# Altium schematic symbol library Microver.SchLib: 988 symbols (part 7 of 17)
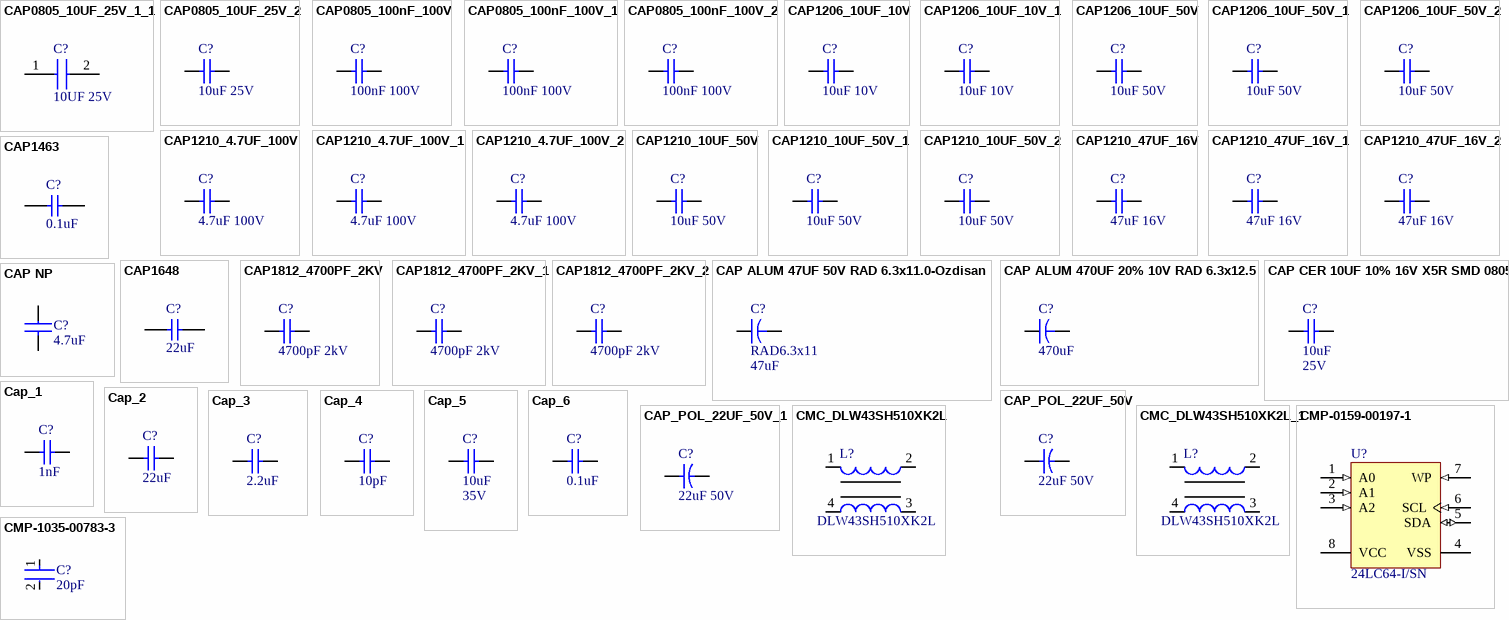
[diagram p35: symbols CAP0805_10UF_25V_1_1 to CMP-1035-00783-3]

## CMP-0159-00197-1
designator U?, comment 24LC64-I/SN
64Kbit, 400kHz, 2.5V, I2C Serial EEPROM, 8-Pin SOIC 150mil, Industrial Temperature; PackageDescription: 8-Lead Plastic Small Outline (SN) - Narrow, 3.90mm Body [SOIC]; PackageReference: SOIC-SN8; Code_JEDEC: MS-012; PackageVersion: revBB, Aug-2009; Code_IPC: SOIC127P600-8; DatasheetVersion: revQ, Jun-2009
footprint SOIC-SN8_L (SOIC, 8-Leads, Body 4.9x3.8mm, Pitch 1.27mm, IPC High Density)
footprint SOIC-SN8_N (SOIC, 8-Leads, Body 4.9x3.8mm, Pitch 1.27mm, IPC Medium Density)
footprint SOIC-SN8_M (SOIC, 8-Leads, Body 4.9x3.8mm, Pitch 1.27mm, IPC Low Density)
pins: 1 A0 (in), 2 A1 (in), 3 A2 (in), 4 VSS (power), 5 SDA (io), 6 SCL (in), 7 WP (in), 8 VCC (power)

## CMP-1035-00783-3
designator C?, comment 20pF
CAP CER 20PF 50V 5% NP0 0603; Manufacturer Part Number: C0603C200J5GACTU; Manufacturer: KEMET; Temperature Coefficient: 30ppm/°C; Temperature Characteristic: C0G; Automotive Grade: Grade 1; Tolerance: 0.05; Material: Ceramic; Category: Cap; Temperature Range Low: -55°C; RoHS: TRUE; ComponentLink2URL: https://api.kemet.com/component-edge/download/datasheet/C0603C100J5GACAUTO.pdf; Package: C0603C-CF; Height: 0.87mm; Capacitance: 20 pF; Voltage Rating: 50 V; Octopart: https://octopart.com/c0603c200j5gactu-kemet-9138585; Device Class L1: Passive Components; Automotive: Yes; Digikey Description: CAP CER 20PF 50V 5% NP0 0603; Temperature Range High: +125°C; Device Class L3: Ceramic Capacitors; Mouser Description: Multilayer Ceramic Capacitors MLCC - SMD/SMT 50volts 20pF C0G 5%; ComponentLink2Description: Datasheet; Device Class L2: Capacitors; Lead Free: Yes; Temperature: -55°C to +125°C; Value: 20 pF
footprint FP-C0603C-CF-MFG
footprint FP-C0603C-CF-IPC_C
footprint FP-C0603C-CF-IPC_B
footprint FP-C0603C-CF-IPC_A
pins: 1, 2

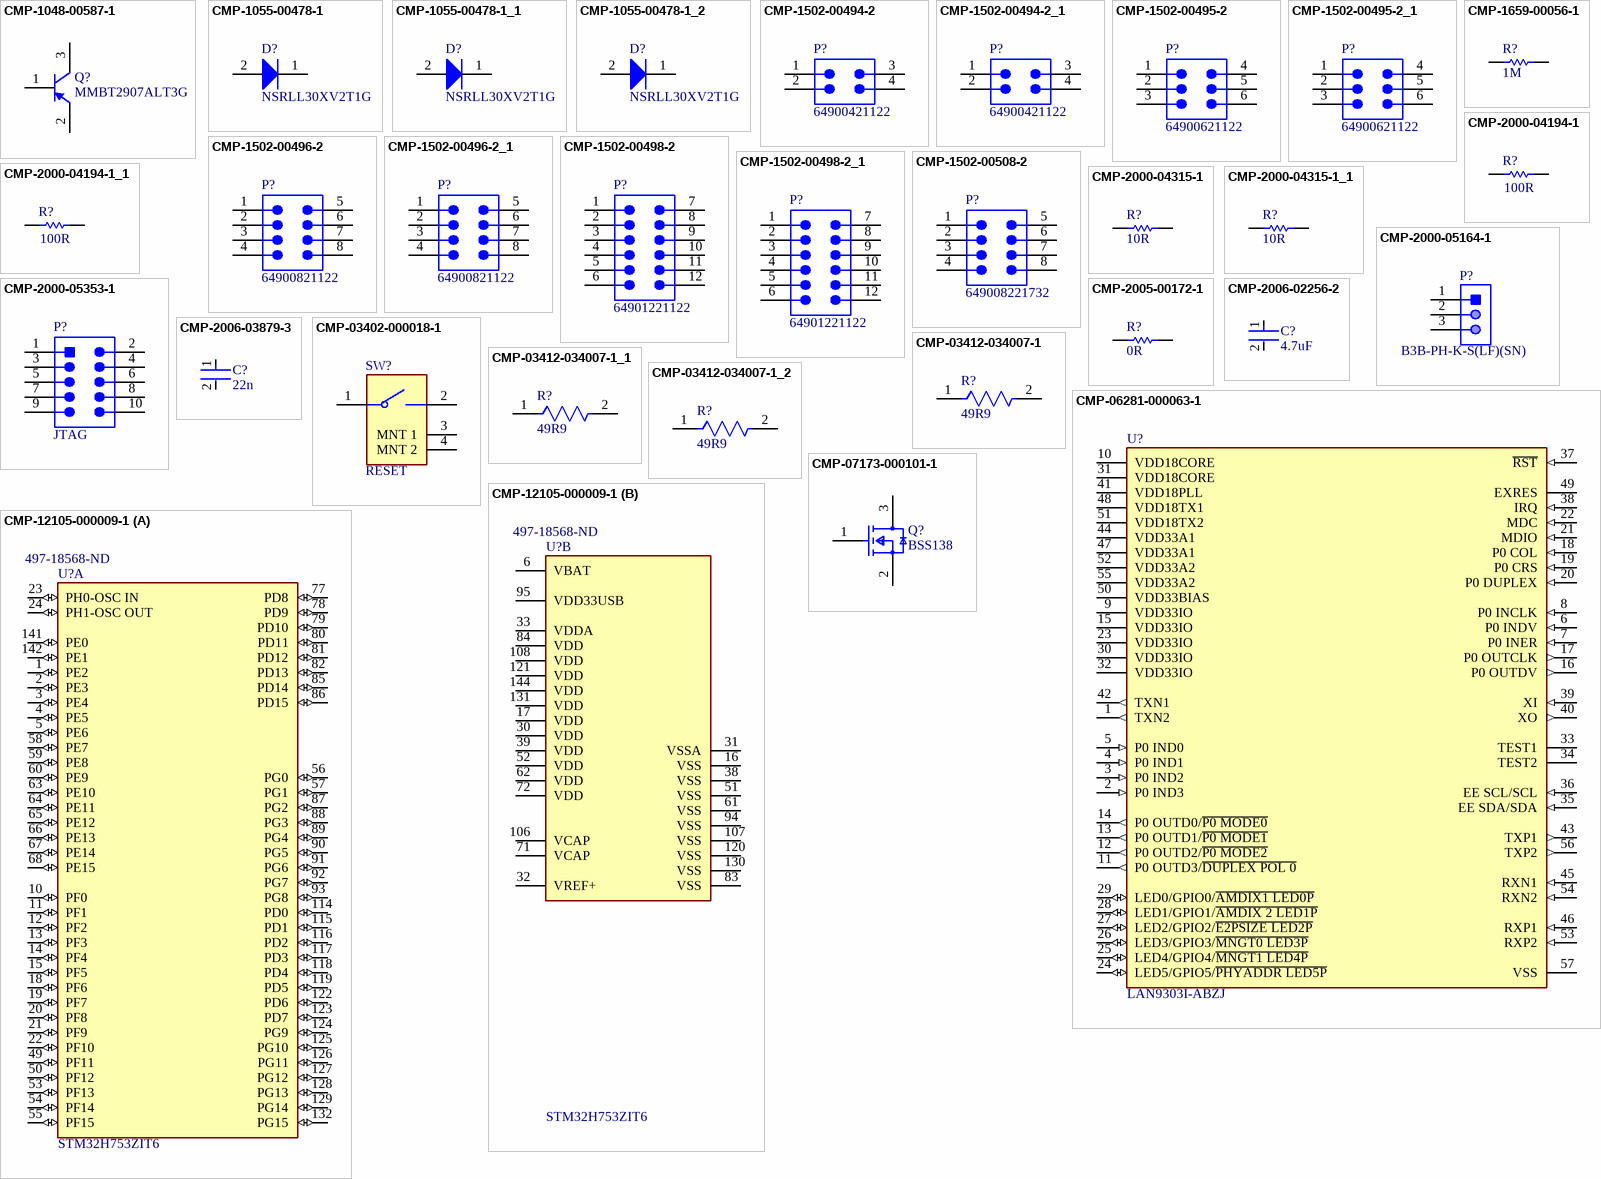
[diagram p9: symbols CMP-1048-00587-1 to CMP-12105-000009-1]

## CMP-1048-00587-1
designator Q?, comment MMBT2907ALT3G
General Purpose Transistor, PNP Silicon, 3-Pin SOT-23, Pb-Free, Tape and Reel; Manufacturer: ON Semiconductor; Collector Emitter Voltage (VCEO): 60V; Max Power Dissipation: 300mW; Max Collector Current: 600mA; Emitter Base Voltage (VEBO): 5V; Element Configuration: Single; hFE Min: 75; Number of Elements: 1; Collector Emitter Saturation Voltage: -1.6V; Gain Bandwidth Product: 200MHz; Collector-emitter Voltage-Max: 1.6V; Voltage Rating (DC): -60V; Current Rating: -600mA; Max Frequency: 100MHz; ComponentLink1Description: Manufacturer URL; ComponentLink2Description: Datasheet; ComponentLink2URL: http://www.onsemi.cn/pub_link/Collateral/MMBT2907ALT1-D.PDF; ComponentLink1URL: http://www.onsemi.com/; ComponentLink3Description: Package Specification; ComponentLink3URL: http://www.onsemi.cn/pub_link/Collateral/318-08.PDF; Supplier 1: Digi-Key; Supplier Part Number 1: MMBT2907ALT3GOSCT-ND; Manufacturer Part Number: MMBT2907ALT3G; RoHS: Yes; Category: BJTs; Stock 1: 3486; Pricing 1: 1=0,18000, 10=0,16100, 25=0,15360, 100=0,08790, 500=0,05410, 1000=0,03689, 2500=0,03136, 5000=0,02828 (USD); Case/Package: SOT-23-3; Number of Pins: 3; Contact Plating: Tin,Matte; Min Operating Temperature: -55°C; Max Operating Temperature: 150°C; Packaging: Tape and Reel; Polarity: PNP; Package Quantity: 10000; Collector Base Voltage (VCBO): 60V; Collector Emitter Breakdown Voltage: 60V; Power Dissipation: 300mW; Frequency: 200MHz; Transition Frequency: 200MHz; Max Breakdown Voltage: 60V; Series: -; Length: 3.04mm; Width: 1.4mm; Height: 1.01mm; Radiation Hardening: No; RoHS Compliant: Yes; Lead Free: Lead Free; REACH SVHC: No SVHC; ComponentLink4URL: https://datasheet.ciiva.com/980/mmbt2907alt1-d-980631.pdf?src-supplier=Digi-Key; ComponentLink4Description: https://datasheet.ciiva.com/980/mmbt2907alt1-d-980631.pdf?src-supplier=Digi-Key; ComponentLink5URL: https://datasheet.ciiva.com/16390/mmbt2907alt1-d-16390999.pdf?src-supplier=Future+Electronics; ComponentLink5Description: https://datasheet.ciiva.com/16390/mmbt2907alt1-d-16390999.pdf?src-supplier=Future+Electronics; ComponentLink6URL: https://datasheet.ciiva.com/980/mmbt2907alt1-d-980632.pdf?src-supplier=Digi-Key; ComponentLink6Description: https://datasheet.ciiva.com/980/mmbt2907alt1-d-980632.pdf?src-supplier=Digi-Key; ComponentLink7URL: https://datasheet.ciiva.com/11198/mmbt2907alt1-d-11198984.pdf?src-supplier=Avnet; ComponentLink7Description: https://datasheet.ciiva.com/11198/mmbt2907alt1-d-11198984.pdf?src-supplier=Avnet; ComponentLink8URL: https://datasheet.ciiva.com/980/mmbt2907alt1-d-980633.pdf?src-supplier=Digi-Key; ComponentLink8Description: https://datasheet.ciiva.com/980/mmbt2907alt1-d-980633.pdf?src-supplier=Digi-Key; ComponentLink9URL: https://datasheet.ciiva.com/7972/mmbt2907alt1-d-7972377.pdf?src-supplier=Element14; ComponentLink9Description: https://datasheet.ciiva.com/7972/mmbt2907alt1-d-7972377.pdf?src-supplier=Element14; ComponentLink10URL: https://datasheet.ciiva.com/11198/mmbt2907alt1-d-11198986.pdf?src-supplier=Avnet; ComponentLink10Description: https://datasheet.ciiva.com/11198/mmbt2907alt1-d-11198986.pdf?src-supplier=Avnet
footprint ONSC-SOT-23-3-318-08_V (SOT23, 3-Leads, Body 2.92x1.3mm, Pitch 0.95mm)
pins: 1 B, 2 E, 3 C

## CMP-1055-00478-1
designator D?, comment NSRLL30XV2T1G
Schottky Barrier Diode, 2-Pin SOD-523, Pb-Free, Tape and Reel; Manufacturer: On Semiconductor; Configuration: Single; PackageReference: SOD-523-2-502-01; PackageVersion: Rev. E, 09/2010; ComponentLink1Description: Manufacturer URL; ComponentLink2URL: http://www.onsemi.cn/pub_link/Collateral/NSRLL30XV2-D.PDF; PartNumber: NSRLL30XV2T1G; PackageDescription: 2-Pin SOD, Body 1.2 x 0.8 mm; RoHS: TRUE; Mounting Technology: Surface Mount; ComponentLink3URL: http://www.onsemi.com/pub_link/Collateral/502-01.PDF; ComponentLink3Description: Package Specification; Packing: Tape and Reel; ComponentLink2Description: Datasheet; DatasheetVersion: Rev. 1; ComponentLink1URL: http://www.onsemi.com/
footprint ONSC-SOD-523-2-502-01_V (SOD, 2-Leads, Body 1.2x0.8mm)
pins: 1 K, 2 A

## CMP-1055-00478-1_1
designator D?, comment NSRLL30XV2T1G
Schottky Barrier Diode, 2-Pin SOD-523, Pb-Free, Tape and Reel; Manufacturer: On Semiconductor; Configuration: Single; PackageReference: SOD-523-2-502-01; PackageVersion: Rev. E, 09/2010; ComponentLink1Description: Manufacturer URL; ComponentLink2URL: http://www.onsemi.cn/pub_link/Collateral/NSRLL30XV2-D.PDF; PartNumber: NSRLL30XV2T1G; PackageDescription: 2-Pin SOD, Body 1.2 x 0.8 mm; RoHS: TRUE; Mounting Technology: Surface Mount; ComponentLink3URL: http://www.onsemi.com/pub_link/Collateral/502-01.PDF; ComponentLink3Description: Package Specification; Packing: Tape and Reel; ComponentLink2Description: Datasheet; DatasheetVersion: Rev. 1; ComponentLink1URL: http://www.onsemi.com/
footprint ONSC-SOD-523-2-502-01_V (SOD, 2-Leads, Body 1.2x0.8mm)
pins: 1 K, 2 A

## CMP-1055-00478-1_2
designator D?, comment NSRLL30XV2T1G
Schottky Barrier Diode, 2-Pin SOD-523, Pb-Free, Tape and Reel; Manufacturer: On Semiconductor; Configuration: Single; PackageReference: SOD-523-2-502-01; PackageVersion: Rev. E, 09/2010; ComponentLink1Description: Manufacturer URL; ComponentLink2URL: http://www.onsemi.cn/pub_link/Collateral/NSRLL30XV2-D.PDF; PartNumber: NSRLL30XV2T1G; PackageDescription: 2-Pin SOD, Body 1.2 x 0.8 mm; RoHS: TRUE; Mounting Technology: Surface Mount; ComponentLink3URL: http://www.onsemi.com/pub_link/Collateral/502-01.PDF; ComponentLink3Description: Package Specification; Packing: Tape and Reel; ComponentLink2Description: Datasheet; DatasheetVersion: Rev. 1; ComponentLink1URL: http://www.onsemi.com/
footprint ONSC-SOD-523-2-502-01_V (SOD, 2-Leads, Body 1.2x0.8mm)
pins: 1 K, 2 A

## CMP-1502-00494-2
designator P?, comment 64900421122
NexarPartId: 8917579; Lead Length: 3.5mm; Pitch: 4.2mm; Number of Contacts: 4; Contact Resistance: 10mΩ; Gender: Male; Connector Type: Male Pin, Socket; Voltage Rating: 600V; Insulation Resistance: 1GΩ; Row Spacing: 5.5118mm; Current Rating: 8A; RoHS: Compliant; Number of Rows: 2; Housing Material: Nylon; Min Operating Temperature: -40°C; Flammability Rating: UL94 V-0; Contact Plating: Tin; REACH SVHC: Unknown; Orientation: Vertical; Contact Material: Copper; Mount: Through Hole; Max Operating Temperature: 105°C; Number of Pins: 4; Width: 9.7mm; Termination: Through Hole; Lead Pitch: 4.2mm; Number of Positions: 4; Contact Gender: Male; Color: White; Height: 12.8mm; Fastening Type: Ramp; Operating Supply Voltage: 600V; Length: 9.6mm
footprint 64900421122 (Connector, 4.20mm Male Dual Row Vertical Header, 4 Pins, WR-MPC4)
pins: 1, 2, 3, 4

## CMP-1502-00494-2_1
designator P?, comment 64900421122
NexarPartId: 8917579; Lead Length: 3.5mm; Pitch: 4.2mm; Number of Contacts: 4; Contact Resistance: 10mΩ; Gender: Male; Connector Type: Male Pin, Socket; Voltage Rating: 600V; Insulation Resistance: 1GΩ; Row Spacing: 5.5118mm; Current Rating: 8A; RoHS: Compliant; Number of Rows: 2; Housing Material: Nylon; Min Operating Temperature: -40°C; Flammability Rating: UL94 V-0; Contact Plating: Tin; REACH SVHC: Unknown; Orientation: Vertical; Contact Material: Copper; Mount: Through Hole; Max Operating Temperature: 105°C; Number of Pins: 4; Width: 9.7mm; Termination: Through Hole; Lead Pitch: 4.2mm; Number of Positions: 4; Contact Gender: Male; Color: White; Height: 12.8mm; Fastening Type: Ramp; Operating Supply Voltage: 600V; Length: 9.6mm
footprint 64900421122 (Connector, 4.20mm Male Dual Row Vertical Header, 4 Pins, WR-MPC4)
pins: 1, 2, 3, 4

## CMP-1502-00495-2
designator P?, comment 64900621122
NexarPartId: 8917580; Voltage Rating: 600V; Number of Positions: 6; Gender: Male; Row Spacing: 5.5118mm; Contact Resistance: 10mΩ; Connector Type: Male Pin, Socket; Pitch: 4.2mm; Insulation Resistance: 1GΩ; Current Rating: 8A; Lead Length: 3.5mm; Housing Material: Nylon; Length: 13.8mm; Fastening Type: Ramp; Orientation: Vertical; RoHS: Compliant; Mount: Through Hole; Number of Contacts: 6; Max Operating Temperature: 105°C; Termination: Through Hole; REACH SVHC: Unknown; Color: White; Contact Gender: Male; Lead Pitch: 4.2mm; Flammability Rating: UL94 V-0; Operating Supply Voltage: 600V; Width: 13.9mm; Min Operating Temperature: -40°C; Contact Material: Copper; Number of Rows: 2; Number of Pins: 6; Contact Plating: Tin; Height: 12.8mm
footprint 64900621122 (WR-MPC4; 4.2mm Pitch 6 Way 2 Row Shrouded Straight PCB Header, Through Hole)
pins: 1, 2, 3, 4, 5, 6

## CMP-1502-00495-2_1
designator P?, comment 64900621122
NexarPartId: 8917580; Voltage Rating: 600V; Number of Positions: 6; Gender: Male; Row Spacing: 5.5118mm; Contact Resistance: 10mΩ; Connector Type: Male Pin, Socket; Pitch: 4.2mm; Insulation Resistance: 1GΩ; Current Rating: 8A; Lead Length: 3.5mm; Housing Material: Nylon; Length: 13.8mm; Fastening Type: Ramp; Orientation: Vertical; RoHS: Compliant; Mount: Through Hole; Number of Contacts: 6; Max Operating Temperature: 105°C; Termination: Through Hole; REACH SVHC: Unknown; Color: White; Contact Gender: Male; Lead Pitch: 4.2mm; Flammability Rating: UL94 V-0; Operating Supply Voltage: 600V; Width: 13.9mm; Min Operating Temperature: -40°C; Contact Material: Copper; Number of Rows: 2; Number of Pins: 6; Contact Plating: Tin; Height: 12.8mm
footprint 64900621122 (WR-MPC4; 4.2mm Pitch 6 Way 2 Row Shrouded Straight PCB Header, Through Hole)
pins: 1, 2, 3, 4, 5, 6

## CMP-1502-00496-2
designator P?, comment 64900821122
NexarPartId: 8917581; Connector Type: Male Pin, Socket; Operating Supply Voltage: 600V; Pitch: 4.2mm; Gender: Male; Number of Positions: 8; Contact Resistance: 10mΩ; Insulation Resistance: 1GΩ; Row Spacing: 5.5118mm; Current Rating: 7A; Insulation: Insulated; Flammability Rating: UL94 V-0; Max Operating Temperature: 105°C; Orientation: Vertical; Min Operating Temperature: -40°C; Contact Gender: Male; Number of Pins: 8; Lead Pitch: 4.2mm; Width: 18.1mm; Height: 9.6mm; REACH SVHC: Unknown; Number of Rows: 2; Number of Contacts: 8; Fastening Type: Ramp; Termination: Through Hole; Housing Material: Nylon; Contact Plating: Tin; Length: 18mm; Contact Material: Copper; Voltage Rating: 600V; RoHS: Compliant; Mount: Through Hole; Color: White
footprint 64900821122 (WR-MPC4; 4.2mm Pitch 8 Way 2 Row Shrouded Straight PCB Header, Through Hole)
pins: 1, 2, 3, 4, 5, 6, 7, 8

## CMP-1502-00496-2_1
designator P?, comment 64900821122
NexarPartId: 8917581; Connector Type: Male Pin, Socket; Operating Supply Voltage: 600V; Pitch: 4.2mm; Gender: Male; Number of Positions: 8; Contact Resistance: 10mΩ; Insulation Resistance: 1GΩ; Row Spacing: 5.5118mm; Current Rating: 7A; Insulation: Insulated; Flammability Rating: UL94 V-0; Max Operating Temperature: 105°C; Orientation: Vertical; Min Operating Temperature: -40°C; Contact Gender: Male; Number of Pins: 8; Lead Pitch: 4.2mm; Width: 18.1mm; Height: 9.6mm; REACH SVHC: Unknown; Number of Rows: 2; Number of Contacts: 8; Fastening Type: Ramp; Termination: Through Hole; Housing Material: Nylon; Contact Plating: Tin; Length: 18mm; Contact Material: Copper; Voltage Rating: 600V; RoHS: Compliant; Mount: Through Hole; Color: White
footprint 64900821122 (WR-MPC4; 4.2mm Pitch 8 Way 2 Row Shrouded Straight PCB Header, Through Hole)
pins: 1, 2, 3, 4, 5, 6, 7, 8

## CMP-1502-00498-2
designator P?, comment 64901221122
NexarPartId: 23024617; Connector Type: Male Pin, Socket; Row Spacing: 4.191mm; Contact Resistance: 10mΩ; Number of Positions: 12; Insulation Resistance: 1GΩ; Current Rating: 6A; Pitch: 4.2mm; Gender: Male; Operating Supply Voltage: 600V; Min Operating Temperature: -40°C; Height: 12.8mm; Termination: Solder; Contact Material: Copper; Orientation: Vertical; Color: White; Length: 26.4mm; Number of Rows: 2; Mount: Through Hole; Width: 26.5mm; Contact Plating: Tin; RoHS: Compliant; Fastening Type: Ramp; Max Operating Temperature: 105°C; Lead Pitch: 4.2mm; Number of Contacts: 12; REACH SVHC: Unknown; Number of Pins: 12
footprint 64901221122 (Connector, 4.20mm Male Dual Row Vertical Header, 12 Pins, WR-MPC4)
pins: 1, 2, 3, 4, 5, 6, 7, 8, 9, 10, 11, 12

## CMP-1502-00498-2_1
designator P?, comment 64901221122
NexarPartId: 23024617; Connector Type: Male Pin, Socket; Row Spacing: 4.191mm; Contact Resistance: 10mΩ; Number of Positions: 12; Insulation Resistance: 1GΩ; Current Rating: 6A; Pitch: 4.2mm; Gender: Male; Operating Supply Voltage: 600V; Min Operating Temperature: -40°C; Height: 12.8mm; Termination: Solder; Contact Material: Copper; Orientation: Vertical; Color: White; Length: 26.4mm; Number of Rows: 2; Mount: Through Hole; Width: 26.5mm; Contact Plating: Tin; RoHS: Compliant; Fastening Type: Ramp; Max Operating Temperature: 105°C; Lead Pitch: 4.2mm; Number of Contacts: 12; REACH SVHC: Unknown; Number of Pins: 12
footprint 64901221122 (Connector, 4.20mm Male Dual Row Vertical Header, 12 Pins, WR-MPC4)
pins: 1, 2, 3, 4, 5, 6, 7, 8, 9, 10, 11, 12

## CMP-1502-00508-2
designator P?, comment 649008221732
NexarPartId: 23024611; Number of Contacts: 8; Insulation Resistance: 1GΩ; Current Rating: 7A; Operating Supply Voltage: 600V; Contact Resistance: 10mΩ; Row Spacing: 4.191mm; Gender: Male; Pitch: 4.2mm; Connector Type: Male Pin, Plug; RoHS: Compliant; Contact Plating: Tin; Mount: Through Hole; Max Operating Temperature: 105°C; Contact Material: Copper; Width: 18mm; Orientation: Vertical; Min Operating Temperature: -40°C; Length: 18mm; Fastening Type: Ramp; Number of Positions: 8; Termination: Solder; Number of Pins: 8; REACH SVHC: Unknown; Lead Pitch: 4.2mm; Number of Rows: 2; Color: White; Height: 12.8mm
footprint 64900821122 (4.20mm Male Dual Row Vertical Header, 8p)
pins: 1, 2, 3, 4, 5, 6, 7, 8

## CMP-1659-00056-1
designator R?, comment 1M
Chip Resistor, 1 MOhm, +/- 1%, 100 mW, -55 to 155 degC, 0603 (1608 Metric), RoHS, Tape and Reel; Voltage Rating (DC): 25 V; Tolerance: 20%; Case\Package: Radial; Capacitance: 1 mF; Min Operating Temperature: -40 degC; PackageDescription: 2-Pin Surface Mount Device, Body 1.6 x 0.8 mm; ComponentLink1Description: Manufacturer URL; Radiation Hardening: No; DatasheetVersion: Rev. 4, 02/2016; REACH SVHC: No SVHC; Length: 20 mm; Max Operating Temperature: 85 degC; Diameter: 10 mm; Packaging: Bulk; Package Quantity: 200; PackageReference: 0603; Mount: Through Hole; ComponentLink1URL: http://www.yageo.com/; ComponentLink2URL: http://www.yageo.com/documents/recent/PYu-RC_Group_51_RoHS_L_04.pdf; ComponentLink2Description: Datasheet; Width: 0 inch; Lead Pitch: 5 mm; RoHSCompliant: true; Voltage Rating: 25 V; Height: 20 mm
footprint RESC1608X55X25LL10T15 (Chip Resistor, 2-Leads, Body 1.70x0.90mm, IPC High Density)
footprint RESC1608X55X25ML10T15 (Chip Resistor, 2-Leads, Body 1.70x0.90mm, IPC Low Density)
footprint RESC1608X55X25NL10T15 (Chip Resistor, 2-Leads, Body 1.70x0.90mm, IPC Medium Density)
pins: 1, 2

## CMP-2000-04194-1
designator R?, comment 100R
Part Number: RC0603FR-13100RL; Manufacturer: Yageo
footprint RESC1608X55X25NL10T15 (Chip Resistor, 2-Leads, Body 1.60x0.80mm, IPC Medium Density)
footprint RESC1608X55X25LL10T15 (Chip Resistor, 2-Leads, Body 1.60x0.80mm, IPC High Density)
footprint RESC1608X55X25ML10T15 (Chip Resistor, 2-Leads, Body 1.60x0.80mm, IPC Low Density)
pins: 1, 2
1 alternate drawing of the same symbol

## CMP-2000-04194-1_1
designator R?, comment 100R
Part Number: RC0603FR-13100RL; Manufacturer: Yageo
footprint RESC1608X55X25NL10T15 (Chip Resistor, 2-Leads, Body 1.60x0.80mm, IPC Medium Density)
footprint RESC1608X55X25LL10T15 (Chip Resistor, 2-Leads, Body 1.60x0.80mm, IPC High Density)
footprint RESC1608X55X25ML10T15 (Chip Resistor, 2-Leads, Body 1.60x0.80mm, IPC Low Density)
pins: 1, 2
1 alternate drawing of the same symbol

## CMP-2000-04315-1
designator R?, comment 10R
Part Number: RC0603JR-1310RL; Manufacturer: Yageo
footprint RESC1608X55X25LL10T15 (Chip Resistor, 2-Leads, Body 1.60x0.80mm, IPC High Density)
footprint RESC1608X55X25ML10T15 (Chip Resistor, 2-Leads, Body 1.60x0.80mm, IPC Low Density)
footprint RESC1608X55X25NL10T15 (Chip Resistor, 2-Leads, Body 1.60x0.80mm, IPC Medium Density)
pins: 1, 2
1 alternate drawing of the same symbol

## CMP-2000-04315-1_1
designator R?, comment 10R
Part Number: RC0603JR-1310RL; Manufacturer: Yageo
footprint RESC1608X55X25LL10T15 (Chip Resistor, 2-Leads, Body 1.60x0.80mm, IPC High Density)
footprint RESC1608X55X25ML10T15 (Chip Resistor, 2-Leads, Body 1.60x0.80mm, IPC Low Density)
footprint RESC1608X55X25NL10T15 (Chip Resistor, 2-Leads, Body 1.60x0.80mm, IPC Medium Density)
pins: 1, 2
1 alternate drawing of the same symbol

## CMP-2000-05164-1
designator P?, comment B3B-PH-K-S(LF)(SN)
Male Header, Pitch 2 mm, 1 x 3 Position, Height 6 mm, Tail Length 3.4 mm, -25 to 85 degC, RoHS, Bulk; Manufacturer: JST; Style/Orientation: StraightHeader/Plug; Pitch: 2mm; No of Positions: 3; Termination: Crimp; Manufacturer URL: http://www.jst.com/home2.html; Datasheet Version: Oct-06; Type: ShroudedHeader; Datasheet URL: https://datasheet.ciiva.com/11746/0900766b80826550-11746939.pdf; Manufacturer Part Number: B3B-PH-K-S(LF)(SN)
footprint JST-B3B-PH-K-S-3_V (Connector, 3-Leads, Body 7.9x4.5mm, Pitch 2mm)
pins: 1, 2, 3

## CMP-2000-05353-1
designator P?, comment JTAG
CONN HEADER SMD 10POS 1.27MM; Manufacturer: Samtec; Manufacturer Part Number: FTSH-105-01-L-DV-K; Number of Contacts: 10; Gender: Male; Max Current Rating: 1.75A; Connector Type: Male Pin; Row Spacing: 0.05inch; ComponentLink1URL: https://datasheet.ciiva.com/26936/getdatasheetpartid-175877-26936879.pdf?src-supplier=Verical; ComponentLink1Description: https://datasheet.ciiva.com/26936/getdatasheetpartid-175877-26936879.pdf?src-supplier=Verical; ComponentLink2URL: https://datasheet.ciiva.com/728/ftsh-1xx-xx-xxx-dv-xxx-mkt-728872.pdf?src-supplier=Digi-Key; ComponentLink2Description: https://datasheet.ciiva.com/728/ftsh-1xx-xx-xxx-dv-xxx-mkt-728872.pdf?src-supplier=Digi-Key; ComponentLink3URL: https://datasheet.ciiva.com/10245/ftsh-mt-10245272.pdf?src-supplier=Avnet; ComponentLink3Description: https://datasheet.ciiva.com/10245/ftsh-mt-10245272.pdf?src-supplier=Avnet; ComponentLink4URL: https://datasheet.ciiva.com/16657/ftsh-mt-16657372.pdf?src-supplier=Avnet+Europe; ComponentLink4Description: https://datasheet.ciiva.com/16657/ftsh-mt-16657372.pdf?src-supplier=Avnet+Europe; ComponentLink5URL: https://datasheet.ciiva.com/22703/ftsh-smt-22703900.pdf?src-supplier=Element14; ComponentLink5Description: https://datasheet.ciiva.com/22703/ftsh-smt-22703900.pdf?src-supplier=Element14; Supplier 1: Digi-Key; Supplier Part Number 1: SAM8799-ND; RoHS: Yes; Category: Headers and Wire Housings; Stock 1: 34196; Pricing 1: 1=3,91000, 10=3,75700, 100=3,13100, 500=2,66136, 1000=2,26998 (USD); Mount: Surface Mount; Contact Plating: Gold; Contact Material: Bronze; Housing Color: Black; Housing Material: Polymer; Color: Black; Min Operating Temperature: -55°C; Max Operating Temperature: 125°C; Number of Rows: 2; Termination: Solder; Packaging: Rail/Tube; Orientation: Straight; Package Quantity: 1; Number of Positions: 10; Series: FTSH; Contact Type: Male Pin; Length: 6.35mm; Pitch: 1.27mm; Depth: 3.43mm; Contact Mating Length: 0.12inch; Radiation Hardening: No; Lead Free: Lead Free; RoHS Compliant: Yes; REACH SVHC: No SVHC
footprint SMTC-FTSH-105-01-L-DV-K_V (CONN, 10-Leads, Body 6.35x3.43mm, Pitch 1.27mm)
pins: 1, 2, 3, 4, 5, 6, 7, 8, 9, 10

## CMP-2005-00172-1
designator R?, comment 0R
Part Number: CRCW12100000Z0EAHP; Manufacturer: Vishay Dale
footprint RESC3225X60X45ML20T20 (Chip Resistor, 2-Leads, Body 3.20x2.50mm, IPC Low Density)
footprint RESC3225X60X45NL20T20 (Chip Resistor, 2-Leads, Body 3.20x2.50mm, IPC Medium Density)
footprint RESC3225X60X45LL20T20 (Chip Resistor, 2-Leads, Body 3.20x2.50mm, IPC High Density)
pins: 1, 2
1 alternate drawing of the same symbol

## CMP-2006-02256-2
designator C?, comment 4.7uF
CAP CER 4.7UF 6.3V X5R 0603; Manufacturer: Kemet; Manufacturer Part Number: C0603C475K9PACTU; Temperature Coefficient: 15%; Tolerance: 10%; Material: Ceramic; Device Class L3: Ceramic Capacitors; RoHS: TRUE; Value: 4.7uF; Lead Free: Yes; ComponentLink2Description: Datasheet; Mouser Description: Multilayer Ceramic Capacitors MLCC - SMD/SMT 6.3volts 4.7uF X5R 10%; Package: C0603-CG; Digikey Description: CAP CER 4.7UF 6.3V X5R 0603; ComponentLink2URL: https://content.kemet.com/datasheets/KEM_C1006_X5R_SMD.pdf; Category: Cap; Temperature Range Low: -55°C; Capacitance: 4.7uF; Temperature: -55°C to +85°C; Octopart: https://octopart.com/c0603c475k9pactu-kemet-104242; Ipc Land Pattern Name: CAPC16080X80; Voltage Rating: 6.3V; Temperature Range High: +85°C; Height: 0.9mm; Temperature Characteristic: X5R; Device Class L1: Passive Components; Automotive: No; Device Class L2: Capacitors
footprint FP-C0603-CG-MFG
footprint FP-C0603-CG-IPC_C
footprint FP-C0603-CG-IPC_B
footprint FP-C0603-CG-IPC_A
pins: 1, 2

## CMP-2006-03879-3
designator C?, comment 22n
Ceramic Capacitor 0.022Uf 50V, X7R, 10%, 0603, Full Reel; Manufacturer Part Number: C0603C223K5RACTU; Manufacturer: KEMET; Automotive Grade: Grade 1; Capacitance: 22,000 pF; Value: 22,000 pF; Tolerance: 0.1; Temperature Coefficient: 30ppm/°C; Material: Ceramic; Mouser Description: Capacitor; Ceramic; Cap; .022uF; Tol+10%; SMT; Vol-Rtg 50V; X7R; TR; Voltage Rating: 50 V; Category: Cap; Device Class L2: Capacitors; RoHS: TRUE; Package: C0603C-CF; Device Class L1: Passive Components; Temperature Range Low: -55°C; Octopart: https://octopart.com/c0603c223k5ractu-kemet-97352; Temperature: -55°C to +125°C; Temperature Range High: +125°C; Automotive: Yes; Lead Free: Yes; ComponentLink2URL: https://api.kemet.com/component-edge/download/datasheet/C0603C100J5GACAUTO.pdf; Temperature Characteristic: X7R; Height: 0.87mm; Device Class L3: Ceramic Capacitors; Digikey Description: Ceramic Capacitor 0.022Uf 50V, X7R, 10%, 0603, Full Reel; ComponentLink2Description: Datasheet
footprint FP-C0603C-CF-MFG
footprint FP-C0603C-CF-IPC_C
footprint FP-C0603C-CF-IPC_B
footprint FP-C0603C-CF-IPC_A
pins: 1, 2

## CMP-03402-000018-1
designator SW?, comment RESET
SWITCH TACTILE SPST-NO 0.05A 24V; Manufacturer: TE Connectivity; Manufacturer Part Number: 1-1825027-7; Mechanical Life: 100000Cycles; Actuator Material: PBT; Actuator Color: White; Throw Configuration: SPST; Operating Force: 1.57N; Illumination Type: Non-Illuminated; Contact Resistance: 100mR; Contact Current Rating: 50mA; Switch Travel: 0.25mm; Switch Function: Off-Mom; Actuator Type: Standard; Actuator Length: 4.24mm; Supplier 1: Digi-Key; Supplier Part Number 1: 450-1660-ND; RoHS: Yes; Category: Pushbutton Switches; Stock 1: 84971; Pricing 1: 1=0,22000, 10=0,21600, 25=0,20480, 100=0,18530, 250=0,16896, 500=0,15706, 1000=0,13399, 2500=0,13026, 5000=0,12282 (USD); Mount: Through Hole; Contact Material: Copper Alloy; Contact Plating: Silver; Min Operating Temperature: -35°C; Max Operating Temperature: 85°C; Voltage Rating (DC): 24V; Package Quantity: 1000; Termination: PC Pins; Packaging: Loose Piece; Max Voltage Rating (DC): 24V; Max Current Rating: 50mA; Electrical Life: 100000Cycles; Orientation: Right Angle; Type: Switch; Series: FSMRAJ, Alcoswitch; Length: 7.11mm; Depth: 10.86mm; Radiation Hardening: No; RoHS Compliant: Yes; ELV: Compliant; Lead Free: Lead Free; ComponentLink1URL: https://datasheet.ciiva.com/30230/eng-cd-1825027-f-30230181.pdf?src-supplier=Onlinecomponents.com; ComponentLink1Description: https://datasheet.ciiva.com/30230/eng-cd-1825027-f-30230181.pdf?src-supplier=Onlinecomponents.com; ComponentLink2URL: https://datasheet.ciiva.com/15184/getdatasheetpartid-160741-15184438.pdf?src-supplier=Verical; ComponentLink2Description: https://datasheet.ciiva.com/15184/getdatasheetpartid-160741-15184438.pdf?src-supplier=Verical; ComponentLink3URL: https://datasheet.ciiva.com/16535/eng-cd-1825027-g4-16535162.pdf?src-supplier=Avnet+Europe; ComponentLink3Description: https://datasheet.ciiva.com/16535/eng-cd-1825027-g4-16535162.pdf?src-supplier=Avnet+Europe; ComponentLink4URL: https://datasheet.ciiva.com/8164/eng-cd-1825027-g4-8164763.pdf?src-supplier=Avnet; ComponentLink4Description: https://datasheet.ciiva.com/8164/eng-cd-1825027-g4-8164763.pdf?src-supplier=Avnet; ComponentLink5URL: https://datasheet.ciiva.com/45260/fsmseries-45260031.pdf?src-supplier=Digi-Key; ComponentLink5Description: https://datasheet.ciiva.com/45260/fsmseries-45260031.pdf?src-supplier=Digi-Key
footprint FP-1-1825027-7-MFG
pins: 1, 2, 3 MNT 1, 4 MNT 2

## CMP-03412-034007-1
designator R?, comment 49R9
RES SMD 49.9OHM 0.05% 1/10W 0603; Manufacturer: Yageo; Manufacturer Part Number: RT0603WRE0749R9L; Voltage Rating: 75V; Tolerance: 0.0005; Power Rating: 0.1W; Resistance: 49.9Ω; Temperature Coefficient: 50 ppm/°C; Value: 49.9Ω; RoHS: TRUE; Temperature Range Low: -55°C; Device Class L2: Resistors; Device Class L1: Passive Components; Footprint Url: http://www.yageo.com/exep/pages/download/literatures/PYu-R_Mount_10.pdf; Series: RT; Category: Res; Lead Free: Yes; Temperature: -55°C to +155°C; Octopart: https://octopart.com/rt0603wre0749r9l-yageo-71397127; Device Class L3: Chip SMD Resistors; Height: 0.55mm; Digikey Description: RES SMD 49.9OHM 0.05% 1/10W 0603; ComponentLink2Description: Datasheet; ComponentLink2URL: http://www.yageo.com/documents/recent/PYu-RT_1-to-0.01_RoHS_L_9.pdf; Automotive: No; Package: RT0603; Composition: Thin Film; Ipc Land Pattern Name: RESC16080X45; Temperature Range High: +155°C
footprint FP-RT0603-MFG
footprint FP-RT0603-IPC_C
footprint FP-RT0603-IPC_B
footprint FP-RT0603-IPC_A
pins: 1, 2

## CMP-03412-034007-1_1
designator R?, comment 49R9
RES SMD 49.9OHM 0.05% 1/10W 0603; Manufacturer: Yageo; Manufacturer Part Number: RT0603WRE0749R9L; Voltage Rating: 75V; Tolerance: 0.0005; Power Rating: 0.1W; Resistance: 49.9Ω; Temperature Coefficient: 50 ppm/°C; Value: 49.9Ω; RoHS: TRUE; Temperature Range Low: -55°C; Device Class L2: Resistors; Device Class L1: Passive Components; Footprint Url: http://www.yageo.com/exep/pages/download/literatures/PYu-R_Mount_10.pdf; Series: RT; Category: Res; Lead Free: Yes; Temperature: -55°C to +155°C; Octopart: https://octopart.com/rt0603wre0749r9l-yageo-71397127; Device Class L3: Chip SMD Resistors; Height: 0.55mm; Digikey Description: RES SMD 49.9OHM 0.05% 1/10W 0603; ComponentLink2Description: Datasheet; ComponentLink2URL: http://www.yageo.com/documents/recent/PYu-RT_1-to-0.01_RoHS_L_9.pdf; Automotive: No; Package: RT0603; Composition: Thin Film; Ipc Land Pattern Name: RESC16080X45; Temperature Range High: +155°C
footprint FP-RT0603-MFG
footprint FP-RT0603-IPC_C
footprint FP-RT0603-IPC_B
footprint FP-RT0603-IPC_A
pins: 1, 2

## CMP-03412-034007-1_2
designator R?, comment 49R9
RES SMD 49.9OHM 0.05% 1/10W 0603; Manufacturer: Yageo; Manufacturer Part Number: RT0603WRE0749R9L; Voltage Rating: 75V; Tolerance: 0.0005; Power Rating: 0.1W; Resistance: 49.9Ω; Temperature Coefficient: 50 ppm/°C; Value: 49.9Ω; RoHS: TRUE; Temperature Range Low: -55°C; Device Class L2: Resistors; Device Class L1: Passive Components; Footprint Url: http://www.yageo.com/exep/pages/download/literatures/PYu-R_Mount_10.pdf; Series: RT; Category: Res; Lead Free: Yes; Temperature: -55°C to +155°C; Octopart: https://octopart.com/rt0603wre0749r9l-yageo-71397127; Device Class L3: Chip SMD Resistors; Height: 0.55mm; Digikey Description: RES SMD 49.9OHM 0.05% 1/10W 0603; ComponentLink2Description: Datasheet; ComponentLink2URL: http://www.yageo.com/documents/recent/PYu-RT_1-to-0.01_RoHS_L_9.pdf; Automotive: No; Package: RT0603; Composition: Thin Film; Ipc Land Pattern Name: RESC16080X45; Temperature Range High: +155°C
footprint FP-RT0603-MFG
footprint FP-RT0603-IPC_C
footprint FP-RT0603-IPC_B
footprint FP-RT0603-IPC_A
pins: 1, 2

## CMP-06281-000063-1
designator U?, comment LAN9303I-ABZJ
IC ETHER SW 3PORT 16BIT 56QFN; Min Supply Voltage: 3V; Data Rate: 100Mbps; Max Supply Current: 190mA; Number of Ports: 3; Max Supply Voltage: 3.6V; Number of Transceivers: 1; Operating Supply Voltage: 3.3V; Interface: I2C; Min Operating Temperature: -40°C; Series: -; Mount: Surface Mount; Radiation Hardening: No; Package Quantity: 260; Lead Free: Lead Free; Number of Pins: 56; Packaging: Tray; Case/Package: QFN; Height: 0.9mm; RoHS Compliant: Yes; Operating Supply Current: 190mA; Width: 7.95mm; Max Operating Temperature: 85°C; Length: 7.95mm
footprint FP-56QFN-5904-8x8B-MFG
pins: 1 TXN2 (out), 2 P0 IND3 (in), 3 P0 IND2 (in), 4 P0 IND1 (in), 5 P0 IND0 (in), 6 P0 INDV (in), 7 P0 INER (in), 8 P0 INCLK (in), 9 VDD33IO (power), 10 VDD18CORE (power), 11 P0 OUTD3/~{DUPLEX POL 0} (out), 12 P0 OUTD2/~{P0 MODE2} (out), 13 P0 OUTD1/~{P0 MODE1} (out), 14 P0 OUTD0/~{P0 MODE0} (out), 15 VDD33IO (power), 16 P0 OUTDV (out), 17 P0 OUTCLK (out), 18 P0 COL (in), 19 P0 CRS (in), 20 P0 DUPLEX (in), 21 MDIO (in), 22 MDC (in), 23 VDD33IO (power), 24 LED5/GPIO5/~{PHYADDR LED5P} (io), 25 LED4/GPIO4/~{MNGT1 LED4P} (io), 26 LED3/GPIO3/~{MNGT0 LED3P} (io), 27 LED2/GPIO2/~{E2PSIZE LED2P} (io), 28 LED1/GPIO1/~{AMDIX 2 LED1P} (io), 29 LED0/GPIO0/~{AMDIX1 LED0P} (io), 30 VDD33IO (power), 31 VDD18CORE (power), 32 VDD33IO (power), 33 TEST1, 34 TEST2, 35 EE SDA/SDA (in), 36 EE SCL/SCL (in), 37 ~{RST} (in), 38 IRQ (in), 39 XI (in), 40 XO (out), 41 VDD18PLL (power), 42 TXN1 (out), 43 TXP1 (out), 44 VDD33A1 (power), 45 RXN1 (in), 46 RXP1 (in), 47 VDD33A1 (power), 48 VDD18TX1 (power), 49 EXRES (power), 50 VDD33BIAS (power), 51 VDD18TX2 (power), 52 VDD33A2 (power), 53 RXP2 (in), 54 RXN2 (in), 55 VDD33A2 (power), 56 TXP2 (out), 57 VSS (power)

## CMP-07173-000101-1
designator Q?, comment BSS138
MOSFET N-CH 50V 220MA SOT-23; Manufacturer: ON Semiconductor / Fairchild; Rds On Max: 3.5R; Max Power Dissipation: 360mW; Input Capacitance: 27pF; Turn-Off Delay Time: 20ns; Turn-On Delay Time: 2.5ns; Gate to Source Voltage (Vgs): 20V; Number of Elements: 1; Threshold Voltage: 1.3V; Rise Time: 9ns; Element Configuration: Single; On-State Resistance: 6R; Supplier 1: Digi-Key; Supplier Part Number 1: BSS138CT-ND; Manufacturer Part Number: BSS138; RoHS: Yes; Category: MOSFETs; Stock 1: 1079620; Pricing 1: 1=0,28000, 10=0,22800, 25=0,19120, 100=0,12100, 500=0,07962, 1000=0,05414 (USD); Mount: Surface Mount; Case/Package: SOT-23; Number of Pins: 3; Contact Plating: Tin,Matte; Weight: 0.03g; Min Operating Temperature: -55°C; Max Operating Temperature: 150°C; Packaging: Tape and Reel; Drain to Source Voltage (Vdss): 50V; Continuous Drain Current (ID): 220mA; Power Dissipation: 360mW; Package Quantity: 1; Drain to Source Breakdown Voltage: 50V; Drain to Source Resistance: 3.5R; Nominal Vgs: 1.3V; Fall Time: 9ns; Voltage Rating (DC): 50V; Current Rating: 220mA; Dual Supply Voltage: 50V; Termination: SMD/SMT; Length: 2.92mm; Width: 1.3mm; Height: 0.93mm; Radiation Hardening: No; REACH SVHC: No SVHC; Lead Free: Lead Free; ComponentLink1URL: https://datasheet.ciiva.com/1190/193736-1190130.pdf?src-supplier=Element14; ComponentLink1Description: https://datasheet.ciiva.com/1190/193736-1190130.pdf?src-supplier=Element14; ComponentLink2URL: https://datasheet.ciiva.com/931/bss138-931776.pdf?src-supplier=Digi-Key; ComponentLink2Description: https://datasheet.ciiva.com/931/bss138-931776.pdf?src-supplier=Digi-Key; ComponentLink3URL: https://datasheet.ciiva.com/22655/193736-22655240.pdf?src-supplier=Element14; ComponentLink3Description: https://datasheet.ciiva.com/22655/193736-22655240.pdf?src-supplier=Element14; ComponentLink4URL: https://datasheet.ciiva.com/1254/193736-1254983.pdf?src-supplier=Newark; ComponentLink4Description: https://datasheet.ciiva.com/1254/193736-1254983.pdf?src-supplier=Newark; ComponentLink5URL: https://datasheet.ciiva.com/27050/784896-27050043.pdf?src-supplier=Jameco; ComponentLink5Description: https://datasheet.ciiva.com/27050/784896-27050043.pdf?src-supplier=Jameco; ComponentLink6URL: https://datasheet.ciiva.com/1190/193736-1190131.pdf?src-supplier=Element14; ComponentLink6Description: https://datasheet.ciiva.com/1190/193736-1190131.pdf?src-supplier=Element14; ComponentLink7URL: https://datasheet.ciiva.com/3304/bss138-3304424.pdf?src-supplier=Avnet; ComponentLink7Description: https://datasheet.ciiva.com/3304/bss138-3304424.pdf?src-supplier=Avnet; ComponentLink8URL: https://datasheet.ciiva.com/16834/bss138-16834843.pdf?src-supplier=Future+Electronics; ComponentLink8Description: https://datasheet.ciiva.com/16834/bss138-16834843.pdf?src-supplier=Future+Electronics; ComponentLink9URL: https://datasheet.ciiva.com/26229/bss138-26229007.pdf?src-supplier=Avnet+Europe; ComponentLink9Description: https://datasheet.ciiva.com/26229/bss138-26229007.pdf?src-supplier=Avnet+Europe
footprint FP-318-08-IPC_B
footprint FP-318-08-MFG
footprint FP-318-08-IPC_A
footprint FP-318-08-IPC_C
pins: 1 G, 2 S, 3 D

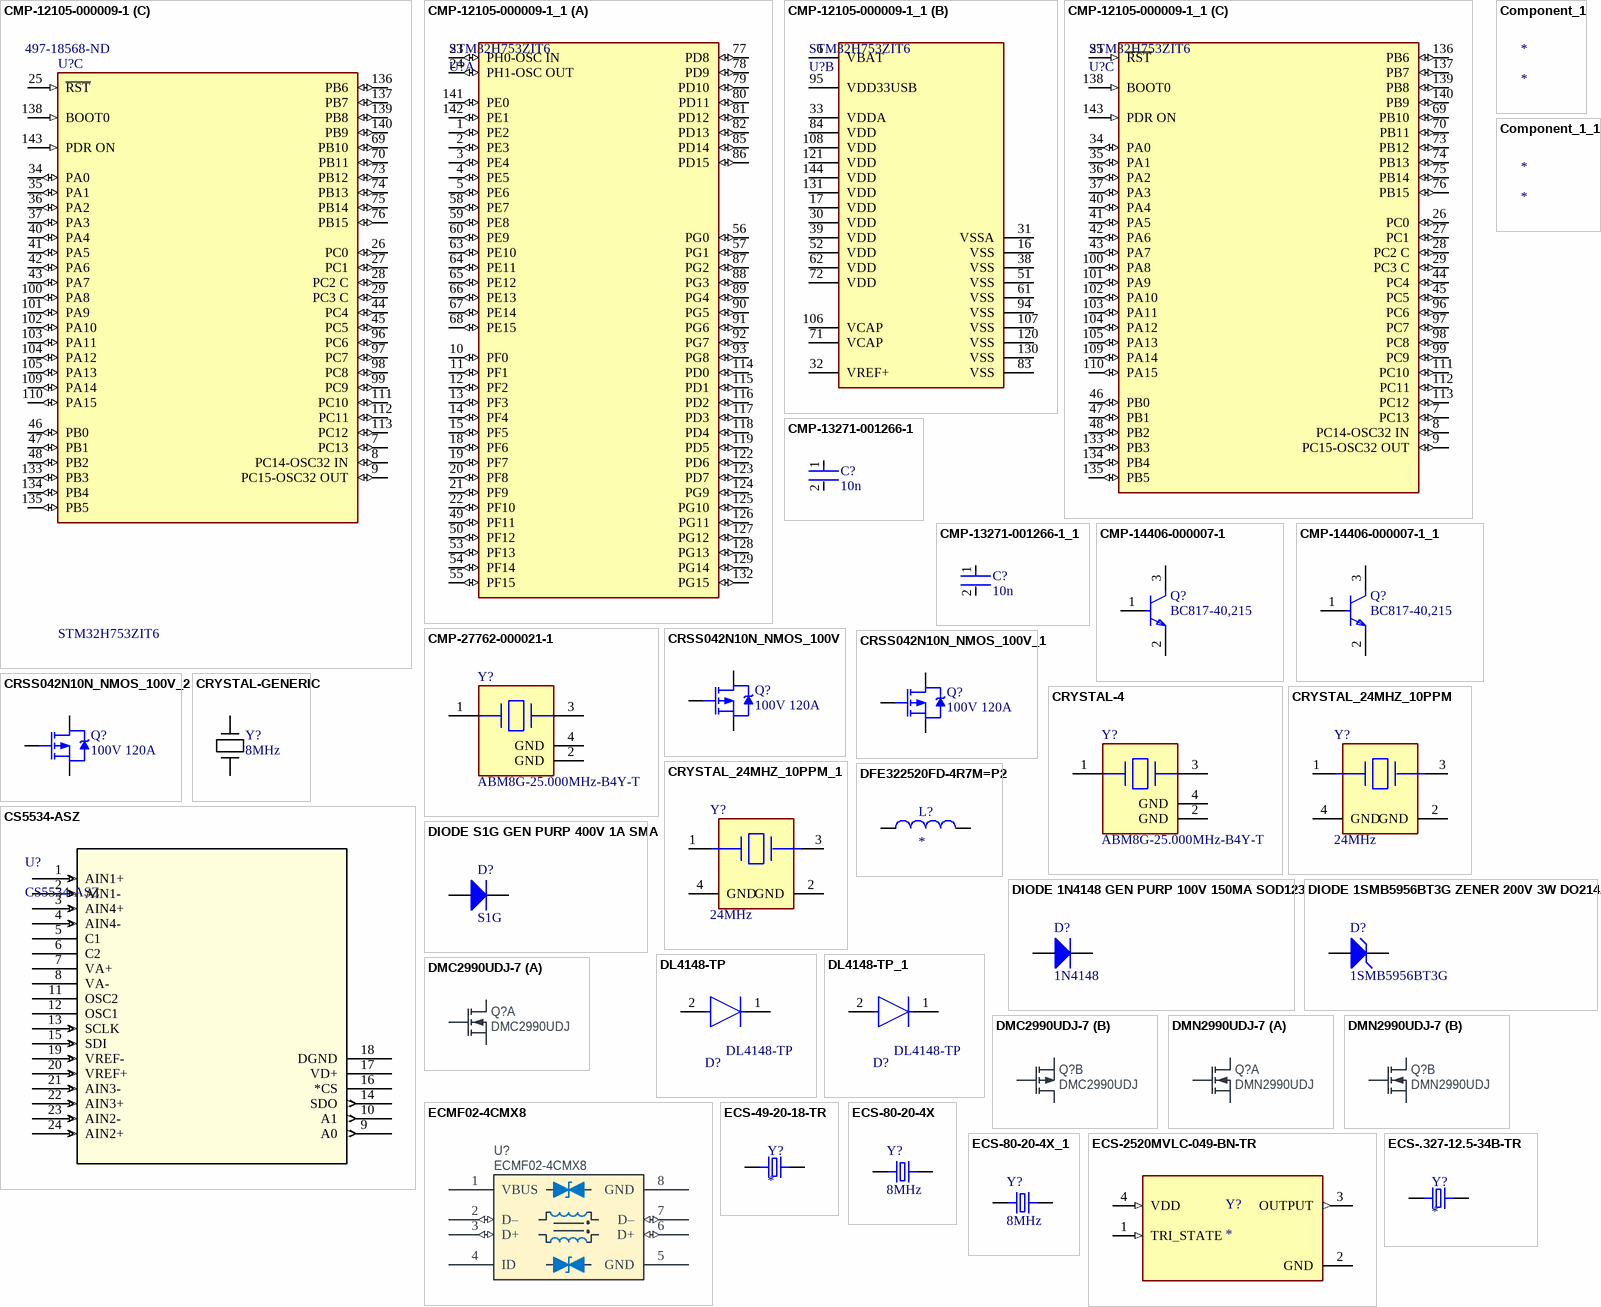
[diagram p10: symbols CMP-12105-000009-1 to ECS-.327-12.5-34B-TR]

## CMP-12105-000009-1
designator U?, comment STM32H753ZIT6  Supplier Part Number 1: 497-18568-ND
LQFP 144 20X20X1.4 2; Manufacturer: STMicroelectronics; ComponentLink2URL: https://www.st.com/resource/en/datasheet/stm32h753zi.pdf; ComponentLink2Description: Datasheet; ComponentLink1URL: http://www.farnell.com/datasheets/2602777.pdf?src-supplier=Farnell; ComponentLink1Description: http://www.farnell.com/datasheets/2602777.pdf?src-supplier=Farnell; ComponentLink3URL: http://www.farnell.com/datasheets/2602777.pdf?src-supplier=Newark; ComponentLink3Description: http://www.farnell.com/datasheets/2602777.pdf?src-supplier=Newark; ComponentLink4URL: http://www.farnell.com/datasheets/2602777.pdf?src-supplier=Element14; ComponentLink4Description: http://www.farnell.com/datasheets/2602777.pdf?src-supplier=Element14; ComponentLink5URL: http://www.st.com/content/ccc/resource/technical/document/datasheet/group3/01/21/00/39/12/c9/4c/f1/DM00388325/files/DM00388325.pdf/jcr:content/translations/en.DM00388325.pdf?src-supplier=Digi-Key; ComponentLink5Description: http://www.st.com/content/ccc/resource/technical/document/datasheet/group3/01/21/00/39/12/c9/4c/f1/DM00388325/files/DM00388325.pdf/jcr:content/translations/en.DM00388325.pdf?src-supplier=Digi-Key; Supplier 1: Digi-Key; Manufacturer Part Number: STM32H753ZIT6; RoHS: Yes; Category: Microcontrollers; Pricing 1: 1=18.38000, 10=16.88900, 25=16.18840, 120=14.58417 (USD); RoHS Compliant: Yes
footprint FP-LQFP144-1A-MFG
footprint FP-LQFP144-1A-IPC_C
footprint FP-LQFP144-1A-IPC_B
footprint FP-LQFP144-1A-IPC_A
part A pins: 1 PE2 (io), 2 PE3 (io), 3 PE4 (io), 4 PE5 (io), 5 PE6 (io), 10 PF0 (io), 11 PF1 (io), 12 PF2 (io), 13 PF3 (io), 14 PF4 (io), 15 PF5 (io), 18 PF6 (io), 19 PF7 (io), 20 PF8 (io), 21 PF9 (io), 22 PF10 (io), 23 PH0-OSC IN (io), 24 PH1-OSC OUT (io), 49 PF11 (io), 50 PF12 (io), 53 PF13 (io), 54 PF14 (io), 55 PF15 (io), 56 PG0 (io), 57 PG1 (io), 58 PE7 (io), 59 PE8 (io), 60 PE9 (io), 63 PE10 (io), 64 PE11 (io), 65 PE12 (io), 66 PE13 (io), 67 PE14 (io), 68 PE15 (io), 77 PD8 (io), 78 PD9 (io), 79 PD10 (io), 80 PD11 (io), 81 PD12 (io), 82 PD13 (io), 85 PD14 (io), 86 PD15 (io), 87 PG2 (io), 88 PG3 (io), 89 PG4 (io), 90 PG5 (io), 91 PG6 (io), 92 PG7 (io), 93 PG8 (io), 114 PD0 (io), 115 PD1 (io), 116 PD2 (io), 117 PD3 (io), 118 PD4 (io), 119 PD5 (io), 122 PD6 (io), 123 PD7 (io), 124 PG9 (io), 125 PG10 (io), 126 PG11 (io), 127 PG12 (io), 128 PG13 (io), 129 PG14 (io), 132 PG15 (io), 141 PE0 (io), 142 PE1 (io)
part B pins: 6 VBAT (power), 16 VSS (power), 17 VDD (power), 30 VDD (power), 31 VSSA (power), 32 VREF+ (power), 33 VDDA (power), 38 VSS (power), 39 VDD (power), 51 VSS (power), 52 VDD (power), 61 VSS (power), 62 VDD (power), 71 VCAP (power), 72 VDD (power), 83 VSS (power), 84 VDD (power), 94 VSS (power), 95 VDD33USB (power), 106 VCAP (power), 107 VSS (power), 108 VDD (power), 120 VSS (power), 121 VDD (power), 130 VSS (power), 131 VDD (power), 144 VDD (power)
part C pins: 7 PC13 (io), 8 PC14-OSC32 IN (io), 9 PC15-OSC32 OUT (io), 25 ~{RST} (in), 26 PC0 (io), 27 PC1 (io), 28 PC2 C (io), 29 PC3 C (io), 34 PA0 (io), 35 PA1 (io), 36 PA2 (io), 37 PA3 (io), 40 PA4 (io), 41 PA5 (io), 42 PA6 (io), 43 PA7 (io), 44 PC4 (io), 45 PC5 (io), 46 PB0 (io), 47 PB1 (io), 48 PB2 (io), 69 PB10 (io), 70 PB11 (io), 73 PB12 (io), 74 PB13 (io), 75 PB14 (io), 76 PB15 (io), 96 PC6 (io), 97 PC7 (io), 98 PC8 (io), 99 PC9 (io), 100 PA8 (io), 101 PA9 (io), 102 PA10 (io), 103 PA11 (io), 104 PA12 (io), 105 PA13 (io), 109 PA14 (io), 110 PA15 (io), 111 PC10 (io), 112 PC11 (io), 113 PC12 (io), 133 PB3 (io), 134 PB4 (io), 135 PB5 (io), 136 PB6 (io), 137 PB7 (io), 138 BOOT0 (in), 139 PB8 (io), 140 PB9 (io), 143 PDR ON (in)

## CMP-12105-000009-1_1
designator U?, comment STM32H753ZIT6
LQFP 144 20X20X1.4 2; Manufacturer: STMicroelectronics; Number Of Pwm Channels: 24; Number Of I/Os: 114; Number Of Cores: 1; Min Supply Voltage: 1.62V; Interface: I2C,SPI,UART,USART,CAN,USB,LIN,IrDA,Ethernet,I2S,SMBus,Other; Standoff Height: 0.05mm; Number Of I2C Channels: 4; Max Junction Temp: +125°C; Memory Type: FLASH; Ram Size: 1MBytes; Number Of Spi Channels: 6; Core Architecture: ARM Cortex-M7; Number Of Uart Channels: 9; Memory Size: 2MBytes; Number Of Adc Channels: 36; Frequency: 480MHz; Data Bus Width: 32bits; Max Supply Voltage: 3.6V; Number Of Usb Channels: 2; Number Of A/D Converters: 3; Number Of Timers/Counters: 20; Temperature Range High: +125°C; Automotive: No; Mouser Description: MCU 32-Bit STM32 ARM Cortex M7 RISC 2MB Flash 1.8V/2.5V/3.3V 144-Pin LQFP Tray; Device Class L3: Microcontrollers; Height: 1.6mm; Octopart: https://octopart.com/stm32h753zit6-stmicroelectronics-87879771; Device Class L2: Embedded Processors and Controllers; Lead Free: Yes; Category: IC; ComponentLink2URL: https://www.st.com/resource/en/datasheet/stm32h753zi.pdf; Ambient Temperature Range High: +85°C; Number Of Ethernet Channels: 1; Device Class L1: Integrated Circuits (ICs); Ambient Temperature Range Low: -40°C; Package: LQFP144-1A; Temperature Range Low: -40°C; Digikey Description: LQFP 144 20X20X1.4 2; ComponentLink2Description: Datasheet; Temperature: -40°C to +125°C; Manufacturer Part Number: STM32H753ZIT6; RoHS: TRUE
footprint FP-LQFP144-1A-IPC_C
footprint FP-LQFP144-1A-MFG
footprint FP-LQFP144-1A-IPC_B
footprint FP-LQFP144-1A-IPC_A
part A pins: 1 PE2 (io), 2 PE3 (io), 3 PE4 (io), 4 PE5 (io), 5 PE6 (io), 10 PF0 (io), 11 PF1 (io), 12 PF2 (io), 13 PF3 (io), 14 PF4 (io), 15 PF5 (io), 18 PF6 (io), 19 PF7 (io), 20 PF8 (io), 21 PF9 (io), 22 PF10 (io), 23 PH0-OSC IN (io), 24 PH1-OSC OUT (io), 49 PF11 (io), 50 PF12 (io), 53 PF13 (io), 54 PF14 (io), 55 PF15 (io), 56 PG0 (io), 57 PG1 (io), 58 PE7 (io), 59 PE8 (io), 60 PE9 (io), 63 PE10 (io), 64 PE11 (io), 65 PE12 (io), 66 PE13 (io), 67 PE14 (io), 68 PE15 (io), 77 PD8 (io), 78 PD9 (io), 79 PD10 (io), 80 PD11 (io), 81 PD12 (io), 82 PD13 (io), 85 PD14 (io), 86 PD15 (io), 87 PG2 (io), 88 PG3 (io), 89 PG4 (io), 90 PG5 (io), 91 PG6 (io), 92 PG7 (io), 93 PG8 (io), 114 PD0 (io), 115 PD1 (io), 116 PD2 (io), 117 PD3 (io), 118 PD4 (io), 119 PD5 (io), 122 PD6 (io), 123 PD7 (io), 124 PG9 (io), 125 PG10 (io), 126 PG11 (io), 127 PG12 (io), 128 PG13 (io), 129 PG14 (io), 132 PG15 (io), 141 PE0 (io), 142 PE1 (io)
part B pins: 6 VBAT (power), 16 VSS (power), 17 VDD (power), 30 VDD (power), 31 VSSA (power), 32 VREF+ (power), 33 VDDA (power), 38 VSS (power), 39 VDD (power), 51 VSS (power), 52 VDD (power), 61 VSS (power), 62 VDD (power), 71 VCAP (power), 72 VDD (power), 83 VSS (power), 84 VDD (power), 94 VSS (power), 95 VDD33USB (power), 106 VCAP (power), 107 VSS (power), 108 VDD (power), 120 VSS (power), 121 VDD (power), 130 VSS (power), 131 VDD (power), 144 VDD (power)
part C pins: 7 PC13 (io), 8 PC14-OSC32 IN (io), 9 PC15-OSC32 OUT (io), 25 ~{RST} (in), 26 PC0 (io), 27 PC1 (io), 28 PC2 C (io), 29 PC3 C (io), 34 PA0 (io), 35 PA1 (io), 36 PA2 (io), 37 PA3 (io), 40 PA4 (io), 41 PA5 (io), 42 PA6 (io), 43 PA7 (io), 44 PC4 (io), 45 PC5 (io), 46 PB0 (io), 47 PB1 (io), 48 PB2 (io), 69 PB10 (io), 70 PB11 (io), 73 PB12 (io), 74 PB13 (io), 75 PB14 (io), 76 PB15 (io), 96 PC6 (io), 97 PC7 (io), 98 PC8 (io), 99 PC9 (io), 100 PA8 (io), 101 PA9 (io), 102 PA10 (io), 103 PA11 (io), 104 PA12 (io), 105 PA13 (io), 109 PA14 (io), 110 PA15 (io), 111 PC10 (io), 112 PC11 (io), 113 PC12 (io), 133 PB3 (io), 134 PB4 (io), 135 PB5 (io), 136 PB6 (io), 137 PB7 (io), 138 BOOT0 (in), 139 PB8 (io), 140 PB9 (io), 143 PDR ON (in)

## CMP-13271-001266-1
designator C?, comment 10n
Cap Ceramic 10nF 50V X7R ±10% Pad SMD 0603 +125°C T/R; Height: 0.8mm; Case Code (Metric): 1608; Capacitance: 10nF; Width: 0.031inch; Voltage Rating: 50V; Dielectric: X7R; Case Code (Imperial): 0603; Mount: Surface Mount; Thickness: 0.035inch; Max Operating Temperature: 125°C; Min Operating Temperature: -55°C; Case/Package: 0603; Length: 0.063inch; Tolerance: 10%; Depth: 0.8mm; Radiation Hardening: No; Packaging: Tape and Reel; Contact Plating: Tin
footprint FP-CL10-IPC_C
footprint FP-CL10-IPC_B
footprint FP-CL10-IPC_A
pins: 1, 2

## CMP-13271-001266-1_1
designator C?, comment 10n
Cap Ceramic 10nF 50V X7R ±10% Pad SMD 0603 +125°C T/R; Height: 0.8mm; Case Code (Metric): 1608; Capacitance: 10nF; Width: 0.031inch; Voltage Rating: 50V; Dielectric: X7R; Case Code (Imperial): 0603; Mount: Surface Mount; Thickness: 0.035inch; Max Operating Temperature: 125°C; Min Operating Temperature: -55°C; Case/Package: 0603; Length: 0.063inch; Tolerance: 10%; Depth: 0.8mm; Radiation Hardening: No; Packaging: Tape and Reel; Contact Plating: Tin
footprint FP-CL10-IPC_C
footprint FP-CL10-IPC_B
footprint FP-CL10-IPC_A
pins: 1, 2

## CMP-14406-000007-1
designator Q?, comment BC817-40,215
TRANS NPN 45V 0.5A SOT23; Manufacturer: Nexperia; Collector Emitter Saturation Voltage: 700mV; Power Dissipation: 250mW; Collector Base Voltage: 50V; Unity Gain Freq: 100MHz; Hfe Max: 600; Rthja Max: 500K/W; Emitter Base Voltage: 5V; Max Collector Current: 500mA; Hfe Testvce: 1V; Automotive Grade: Grade 0; Hfe Min: 250; Max Junction Temp: +150°C; Number Of Npn: 1; Hfe Testic: 100mA; Octopart: https://octopart.com/bc817-40%2C215-nexperia-78739081; Lead Free: Yes; Ipc Land Pattern Name: SOT95P230X100-3; Manufacturer Part Number: BC817-40,215; RoHS: TRUE; Collector Emitter Breakdown Voltage: 45V; Digikey Description: TRANS NPN 45V 0.5A SOT23; ComponentLink2URL: https://assets.nexperia.com/documents/data-sheet/BC817_SER.pdf; Temperature Range High: +150°C; Mouser Description: BC817 Series 45 V 500 mA 250 mW SMT NPN General-Purpose Transistor - SOT-23-; Device Class L3: BJTs; Temperature: to +150°C; Height: 1.1mm; Automotive: Yes; Ambient Temperature Range Low: -65°C; Package: SOT23; Collector Emitter Voltage: 45V; Category: Trans; ComponentLink2Description: Datasheet; Device Class L2: Transistors; Ambient Temperature Range High: +150°C; Number Of Elements: 1; Device Class L1: Discrete Semiconductors; Footprint Url: https://assets.nexperia.com/documents/outline-drawing/SOT23.pdf
footprint FP-SOT23-MFG
footprint FP-SOT23-IPC_C
footprint FP-SOT23-IPC_B
footprint FP-SOT23-IPC_A
pins: 1 B, 2 E, 3 C

## CMP-14406-000007-1_1
designator Q?, comment BC817-40,215
TRANS NPN 45V 0.5A SOT23; Manufacturer: Nexperia; Collector Emitter Saturation Voltage: 700mV; Power Dissipation: 250mW; Collector Base Voltage: 50V; Unity Gain Freq: 100MHz; Hfe Max: 600; Rthja Max: 500K/W; Emitter Base Voltage: 5V; Max Collector Current: 500mA; Hfe Testvce: 1V; Automotive Grade: Grade 0; Hfe Min: 250; Max Junction Temp: +150°C; Number Of Npn: 1; Hfe Testic: 100mA; Octopart: https://octopart.com/bc817-40%2C215-nexperia-78739081; Lead Free: Yes; Ipc Land Pattern Name: SOT95P230X100-3; Manufacturer Part Number: BC817-40,215; RoHS: TRUE; Collector Emitter Breakdown Voltage: 45V; Digikey Description: TRANS NPN 45V 0.5A SOT23; ComponentLink2URL: https://assets.nexperia.com/documents/data-sheet/BC817_SER.pdf; Temperature Range High: +150°C; Mouser Description: BC817 Series 45 V 500 mA 250 mW SMT NPN General-Purpose Transistor - SOT-23-; Device Class L3: BJTs; Temperature: to +150°C; Height: 1.1mm; Automotive: Yes; Ambient Temperature Range Low: -65°C; Package: SOT23; Collector Emitter Voltage: 45V; Category: Trans; ComponentLink2Description: Datasheet; Device Class L2: Transistors; Ambient Temperature Range High: +150°C; Number Of Elements: 1; Device Class L1: Discrete Semiconductors; Footprint Url: https://assets.nexperia.com/documents/outline-drawing/SOT23.pdf
footprint FP-SOT23-MFG
footprint FP-SOT23-IPC_C
footprint FP-SOT23-IPC_B
footprint FP-SOT23-IPC_A
pins: 1 B, 2 E, 3 C

## CMP-27762-000021-1
designator Y?, comment ABM8G-25.000MHz-B4Y-T
ABRACON - ABM8G-25.000MHZ-B4Y-T - CRYSTAL, 25MHZ, 10PF, 3.2 X 2.5MM; Frequency Stability: 30ppm; ESR (Equivalent Series Resistance): 60R; Supplier 1: Digi-Key; Supplier Part Number 1: 535-10297-1-ND; Manufacturer: Abracon; Manufacturer Part Number: ABM8G-25.000MHZ-B4Y-T; RoHS: Yes; Category: Crystals; Stock 1: 1081; Pricing 1: 1=0,82000, 10=0,72900, 50=0,68120, 100=0,60190, 500=0,57024 (USD); Mount: Surface Mount; Case/Package: SMD/SMT; Number of Pins: 4; Min Operating Temperature: -20°C; Max Operating Temperature: 70°C; Termination: SMD/SMT; Packaging: Tape and Reel; Frequency Tolerance: 30ppm; Load Capacitance: 10pF; Frequency: 25MHz; Package Quantity: 1000; Tolerance: 30ppm; Series Resistance: 60R; Length: 3.2mm; Width: 0.098inch; Height: 0.039inch; Depth: 2.5mm; REACH SVHC: Unknown; Lead Free: Lead Free; ComponentLink1URL: https://datasheet.ciiva.com/7998/abm8g-7998635.pdf?src-supplier=Element14; ComponentLink1Description: https://datasheet.ciiva.com/7998/abm8g-7998635.pdf?src-supplier=Element14; ComponentLink2URL: https://datasheet.ciiva.com/855/abm8g-855228.pdf?src-supplier=Digi-Key; ComponentLink2Description: https://datasheet.ciiva.com/855/abm8g-855228.pdf?src-supplier=Digi-Key; ComponentLink3URL: https://datasheet.ciiva.com/16416/abm8g-16416874.pdf?src-supplier=Future+Electronics; ComponentLink3Description: https://datasheet.ciiva.com/16416/abm8g-16416874.pdf?src-supplier=Future+Electronics; ComponentLink4URL: https://datasheet.ciiva.com/28508/1883677-28508586.pdf?src-supplier=Element14; ComponentLink4Description: https://datasheet.ciiva.com/28508/1883677-28508586.pdf?src-supplier=Element14; ComponentLink5URL: https://datasheet.ciiva.com/855/abm8g-855229.pdf?src-supplier=Digi-Key; ComponentLink5Description: https://datasheet.ciiva.com/855/abm8g-855229.pdf?src-supplier=Digi-Key; ComponentLink6URL: https://datasheet.ciiva.com/855/abm8g-855230.pdf?src-supplier=Digi-Key; ComponentLink6Description: https://datasheet.ciiva.com/855/abm8g-855230.pdf?src-supplier=Digi-Key; ComponentLink7URL: https://datasheet.ciiva.com/4945/abm8g-10572-4945134.pdf?src-supplier=Mouser; ComponentLink7Description: https://datasheet.ciiva.com/4945/abm8g-10572-4945134.pdf?src-supplier=Mouser
footprint FP-ABM8G-MFG
pins: 1, 2 GND (power), 3, 4 GND (power)

## Component_1
designator *

## Component_1_1
designator *

## CRSS042N10N_NMOS_100V
designator Q?, comment 100V 120A
100V 120A 227W 4.2mΩ@10V,50A N Channel TO-263-3 MOSFETs ROHS; LCSC Manufacturer Part Number: CRSS042N10N; Value: 100V 120A; LCSC Part Number: C410926
footprint TO263-2
pins: 1 G, 2 D, 3 S

## CRSS042N10N_NMOS_100V_1
designator Q?, comment 100V 120A
100V 120A 227W 4.2mΩ@10V,50A N Channel TO-263-3 MOSFETs ROHS; LCSC Manufacturer Part Number: CRSS042N10N; Value: 100V 120A; LCSC Part Number: C410926
footprint TO263-2
pins: 1 G, 2 D, 3 S

## CRSS042N10N_NMOS_100V_2
designator Q?, comment 100V 120A
100V 120A 227W 4.2mΩ@10V,50A N Channel TO-263-3 MOSFETs ROHS; LCSC Manufacturer Part Number: CRSS042N10N; Value: 100V 120A; LCSC Part Number: C410926
footprint TO263-2
pins: 1 G, 2 D, 3 S